# EAGLE library part 7SG-12 (library chuong)
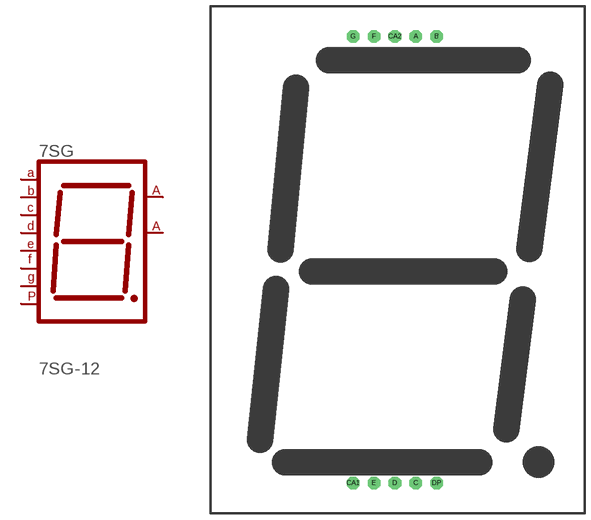
[diagram p67: symbol with the pads of 7SG-12; footprint 7SG-12]

Designator prefix 7SG

## 7SG-12  [7SG-12]
A  A  pas
B  B  pas
C  C  pas
CA1  CA1  pas
CA2  CA2  pas
D  D  pas
DP  DP  pas
E  E  pas
F  F  pas
G  G  pas

## Footprint 7SG-12 (pad centres in mm)
drill 0.61 pad 3.048 octagon: A 50.165,116.205; B 55.245,116.205; C 50.165,7.62; CA1 34.925,7.62; CA2 45.085,116.205; D 45.085,7.62; DP 55.245,7.62; E 40.005,7.62; F 40.005,116.205; G 34.925,116.205